# EAGLE library part LM833 (library SOICB_custom_lib)
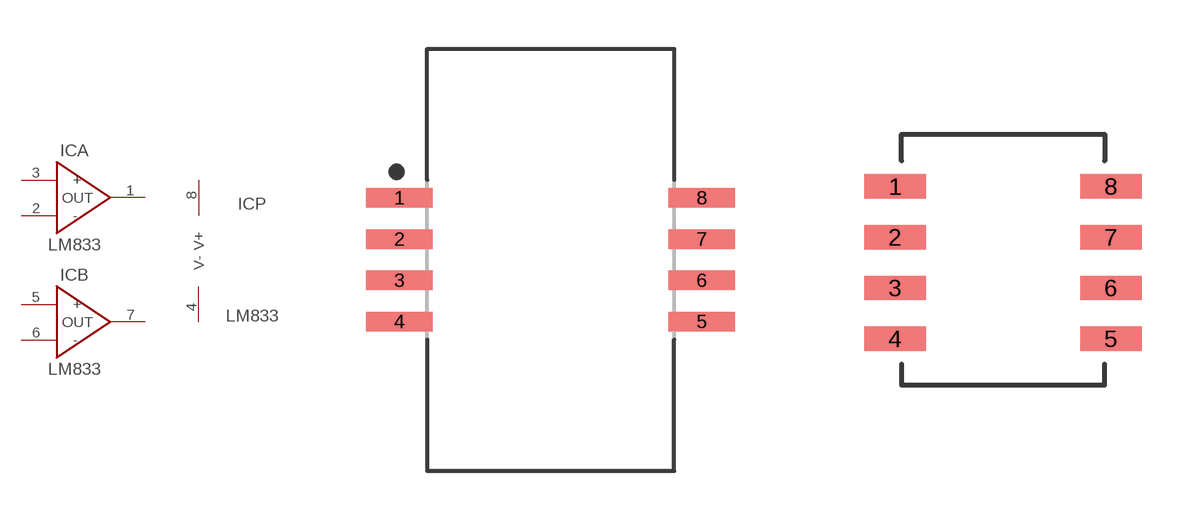
[diagram p0: symbol with the pads of SOIC127P1032X265-8N; footprints SOIC127P1032X265-8N, OPAMP]

Designator prefix IC; gates A=AMP B=AMP P=PPINS

## LM833  [SOIC127P1032X265-8N]
1  A:OUT  out
2  A:-  in
3  A:+  in
4  P:V-  pwr
5  B:+  in
6  B:-  in
7  B:OUT  out
8  P:V+  pwr

## LM833N  [OPAMP]
Pads as for SOIC127P1032X265-8N

## Footprint SOIC127P1032X265-8N (pad centres in mm)
8-SOIC, 1.27 mm pitch, 10.32 mm span, 12.80 X 7.50 X 2.65 mm body 8-pin SOIC package with 1.27 mm pitch, 10.32 mm span with body size 12.80 X 7.50 X 2.65 mm
smd 2.053 x 0.605: 1 -4.654,1.905; 2 -4.654,0.635; 3 -4.654,-0.635; 4 -4.654,-1.905; 5 4.654,-1.905; 6 4.654,-0.635; 7 4.654,0.635; 8 4.654,1.905

## Footprint OPAMP (pad centres in mm)
smd 1.549 x 0.61: 1 -2.7,1.905; 2 -2.7,0.635; 3 -2.7,-0.635; 4 -2.7,-1.905; 5 2.7,-1.905; 6 2.7,-0.635; 7 2.7,0.635; 8 2.7,1.905